# Altium integrated library Switch_SMD_Tactile_Push_Button.IntLib: 1 symbol
Pins are listed as number, name and electrical type; pins without a type are passive.

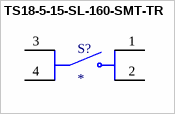
[diagram p0: symbol TS18-5-15-SL-160-SMT-TR]

## TS18-5-15-SL-160-SMT-TR
designator S?
MP: TS18-5-15-SL-160-SMT-TR; Package: None; Price: None; Value: *; Availability: Unavailable
footprint SW_TS18-5-15-SL-160-SMT-TR
pins: 1, 2, 3, 4